# EAGLE library part 93427C (library 93427C)
93427C
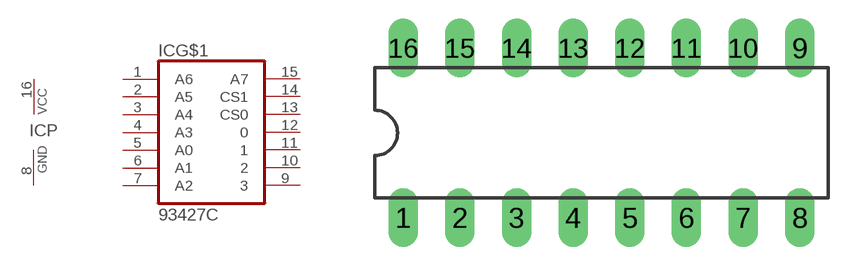
[diagram p0: symbol with the pads of DIL16; footprint DIL16]

Designator prefix IC; gates G$1=93427CS P=PWRN

## 93427C  [DIL16]
1  G$1:A6
2  G$1:A5
3  G$1:A4
4  G$1:A3
5  G$1:A0
6  G$1:A1
7  G$1:A2
8  P:GND  pwr
9  G$1:3
10  G$1:2
11  G$1:1
12  G$1:0
13  G$1:CS0
14  G$1:CS1
15  G$1:A7
16  P:VCC  pwr

## Footprint DIL16 (pad centres in mm)
Dual In Line Package
drill 0.813 long: 1 -8.89,-3.81; 2 -6.35,-3.81; 3 -3.81,-3.81; 4 -1.27,-3.81; 5 1.27,-3.81; 6 3.81,-3.81; 7 6.35,-3.81; 8 8.89,-3.81; 9 8.89,3.81; 10 6.35,3.81; 11 3.81,3.81; 12 1.27,3.81; 13 -1.27,3.81; 14 -3.81,3.81; 15 -6.35,3.81; 16 -8.89,3.81